# Altium footprint library LM66200DRLR.PcbLib: 3 footprints
Each footprint in its own frame and in the unit in brackets; x right, y up, seen from the top. Pads: shape width x height; smd on the part's side, far side on the other; paste and mask are expansions set on the pad; w line width, h text height; cw(c..) or ccw(c..) is an arc to the next point about the centre after c.
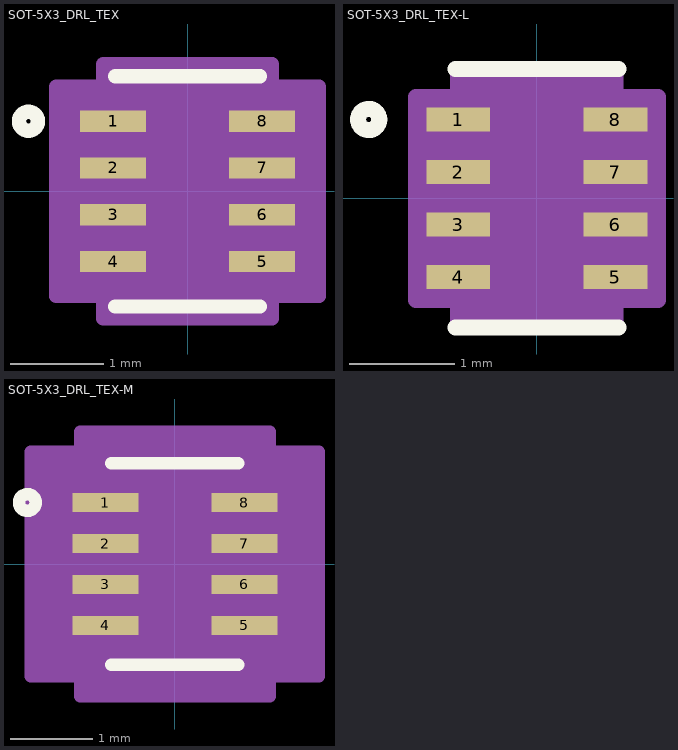
[diagram p0: the footprints below, top view; thin cyan lines are the x and y axes]

## SOT-5X3_DRL_TEX [mm]
pads (8):
  rect 0.706x0.229 smd paste+0 mask+0: 1(-0.798,0.75) 2(-0.798,0.25) 3(-0.798,-0.25) 4(-0.798,-0.75) 5(0.798,-0.75) 6(0.798,-0.25) 7(0.798,0.25) 8(0.798,0.75)
Top Overlay:
  circle w0.152: c-1.702,0.75 r0.102
  lines w0.152: -0.775,-1.232 0.775,-1.232 ; -0.775,1.232 0.775,1.232
Mechanical 13:
  circle w0: c-0.445,0.75 r0.076
  lines w0: -0.305,1.105 ccw(c0,1.105) 0.305,1.105
  lines w0.025: -0.648,-1.105 0.648,-1.105 0.648,1.105 -0.648,1.105 -0.648,-1.105
Mechanical 15:
  region: -0.902,-1.119 -1.405,-1.119 -1.405,1.119 -0.902,1.119 -0.902,1.359 0.902,1.359 0.902,1.119 1.405,1.119 1.405,-1.119 0.902,-1.119 0.902,-1.359 -0.902,-1.359
  lines w0.152: -1.405,-1.119 -1.405,1.119 -0.902,1.119 -0.902,1.359 0.902,1.359 0.902,1.119 1.405,1.119 1.405,-1.119 0.902,-1.119 0.902,-1.359 -0.902,-1.359 -0.902,-1.119 -1.405,-1.119
3D body "SOT-5X3_DRL_TEX.step": height 0.64, standoff 0, extent -0.851,-1.105 0.851,1.105

## SOT-5X3_DRL_TEX-L [mm]
pads (8):
  rect 0.606x0.229 smd paste+0 mask+0: 1(-0.748,0.75) 2(-0.748,0.25) 3(-0.748,-0.25) 4(-0.748,-0.75) 5(0.748,-0.75) 6(0.748,-0.25) 7(0.748,0.25) 8(0.748,0.75)
Top Overlay:
  circle w0.152: c-1.602,0.75 r0.102
  lines w0.152: -0.775,-1.232 0.775,-1.232 ; -0.775,1.232 0.775,1.232
Mechanical 13:
  circle w0: c-0.445,0.75 r0.076
  lines w0: -0.305,1.105 ccw(c0,1.105) 0.305,1.105
  lines w0.025: -0.648,-1.105 0.648,-1.105 0.648,1.105 -0.648,1.105 -0.648,-1.105
Mechanical 15:
  region: -0.749,-0.966 -1.152,-0.966 -1.152,0.966 -0.749,0.966 -0.749,1.206 0.749,1.206 0.749,0.966 1.152,0.966 1.152,-0.966 0.749,-0.966 0.749,-1.206 -0.749,-1.206
  lines w0.152: -1.152,-0.966 -1.152,0.966 -0.749,0.966 -0.749,1.206 0.749,1.206 0.749,0.966 1.152,0.966 1.152,-0.966 0.749,-0.966 0.749,-1.206 -0.749,-1.206 -0.749,-0.966 -1.152,-0.966
3D body "SOT-5X3_DRL_TEX.step": height 0.64, standoff 0, extent -0.851,-1.105 0.851,1.105

## SOT-5X3_DRL_TEX-M [mm]
pads (8):
  rect 0.806x0.229 smd paste+0 mask+0: 1(-0.848,0.75) 2(-0.848,0.25) 3(-0.848,-0.25) 4(-0.848,-0.75) 5(0.848,-0.75) 6(0.848,-0.25) 7(0.848,0.25) 8(0.848,0.75)
Top Overlay:
  circle w0.152: c-1.802,0.75 r0.102
  lines w0.152: -0.775,-1.232 0.775,-1.232 ; -0.775,1.232 0.775,1.232
Mechanical 13:
  circle w0: c-0.445,0.75 r0.076
  lines w0: -0.305,1.105 ccw(c0,1.105) 0.305,1.105
  lines w0.025: -0.648,-1.105 0.648,-1.105 0.648,1.105 -0.648,1.105 -0.648,-1.105
Mechanical 15:
  region: -1.156,-1.373 -1.759,-1.373 -1.759,1.373 -1.156,1.373 -1.156,1.613 1.156,1.613 1.156,1.373 1.759,1.373 1.759,-1.373 1.156,-1.373 1.156,-1.613 -1.156,-1.613
  lines w0.152: -1.759,-1.373 -1.759,1.373 -1.156,1.373 -1.156,1.613 1.156,1.613 1.156,1.373 1.759,1.373 1.759,-1.373 1.156,-1.373 1.156,-1.613 -1.156,-1.613 -1.156,-1.373 -1.759,-1.373
3D body "SOT-5X3_DRL_TEX.step": height 0.64, standoff 0, extent -0.851,-1.105 0.851,1.105